# Altium schematic symbol library GRM0335C1E101FA01D.SchLib: 1 symbol
Pins are listed as number, name and electrical type; pins without a type are passive.

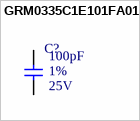
[diagram p0: symbol GRM0335C1E101FA01D]

## GRM0335C1E101FA01D
designator C?  Rated Voltage: 25V  Tolerance: 1%  Capacitence: 100pF  (hidden comment: GRM0335C1E101FA01D)
CAP CER 100PF 25V C0G/NP0 0201; MFR: Murata Electronics; Temperature Coefficient: C0G, NP0; PN: GRM0335C1E101FA01D; ComponentLink1Description: Datasheet; ComponentLink1URL: https://search.murata.co.jp/Ceramy/image/img/A01X/G101/ENG/GRM0335C1E101FA01-01.pdf; Package: 0201; Footprint: C0201; Supplier 1: Digi-Key; Supplier Part Number 1: 490-11282-1-ND
footprint C0201
pins: 1, 2